# EAGLE library part CY22393 (library xess)
Three-PLL Serial Programmable FLASH Clock Generator
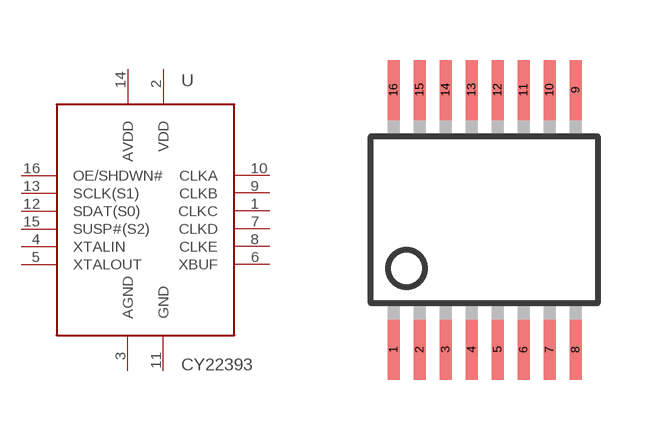
[diagram p25: symbol with the pads of TSSOP16; footprint TSSOP16]

Designator prefix U

## CY22393  [TSSOP16]
1  CLKC  out
2  VDD  pwr
3  AGND  pwr
4  XTALIN  in
5  XTALOUT  out
6  XBUF  out
7  CLKD  out
8  CLKE  out
9  CLKB  out
10  CLKA  out
11  GND  pwr
12  SDAT(S0)  in
13  SCLK(S1)  in
14  AVDD  pwr
15  SUSP#(S2)  in
16  OE/SHDWN#  in

## Footprint TSSOP16 (pad centres in mm)
smd 0.3 x 1.5: 1 -1.95,-3.25; 2 -1.3,-3.25; 3 -0.65,-3.25; 4 0,-3.25; 5 0.65,-3.25; 6 1.3,-3.25; 7 1.95,-3.25; 8 2.6,-3.25; 9 2.6,3.25; 10 1.95,3.25; 11 1.3,3.25; 12 0.65,3.25; 13 0,3.25; 14 -0.65,3.25; 15 -1.3,3.25; 16 -1.95,3.25